# Altium footprint library TI Amplifiers and Linear Operational Amplifier High Speed.PcbLib: 83 footprints (part 4 of 6)
Each footprint in its own frame and in the unit in brackets; x right, y up, seen from the top. Pads: shape width x height; smd on the part's side, far side on the other; paste and mask are expansions set on the pad; w line width, h text height; cw(c..) or ccw(c..) is an arc to the next point about the centre after c.
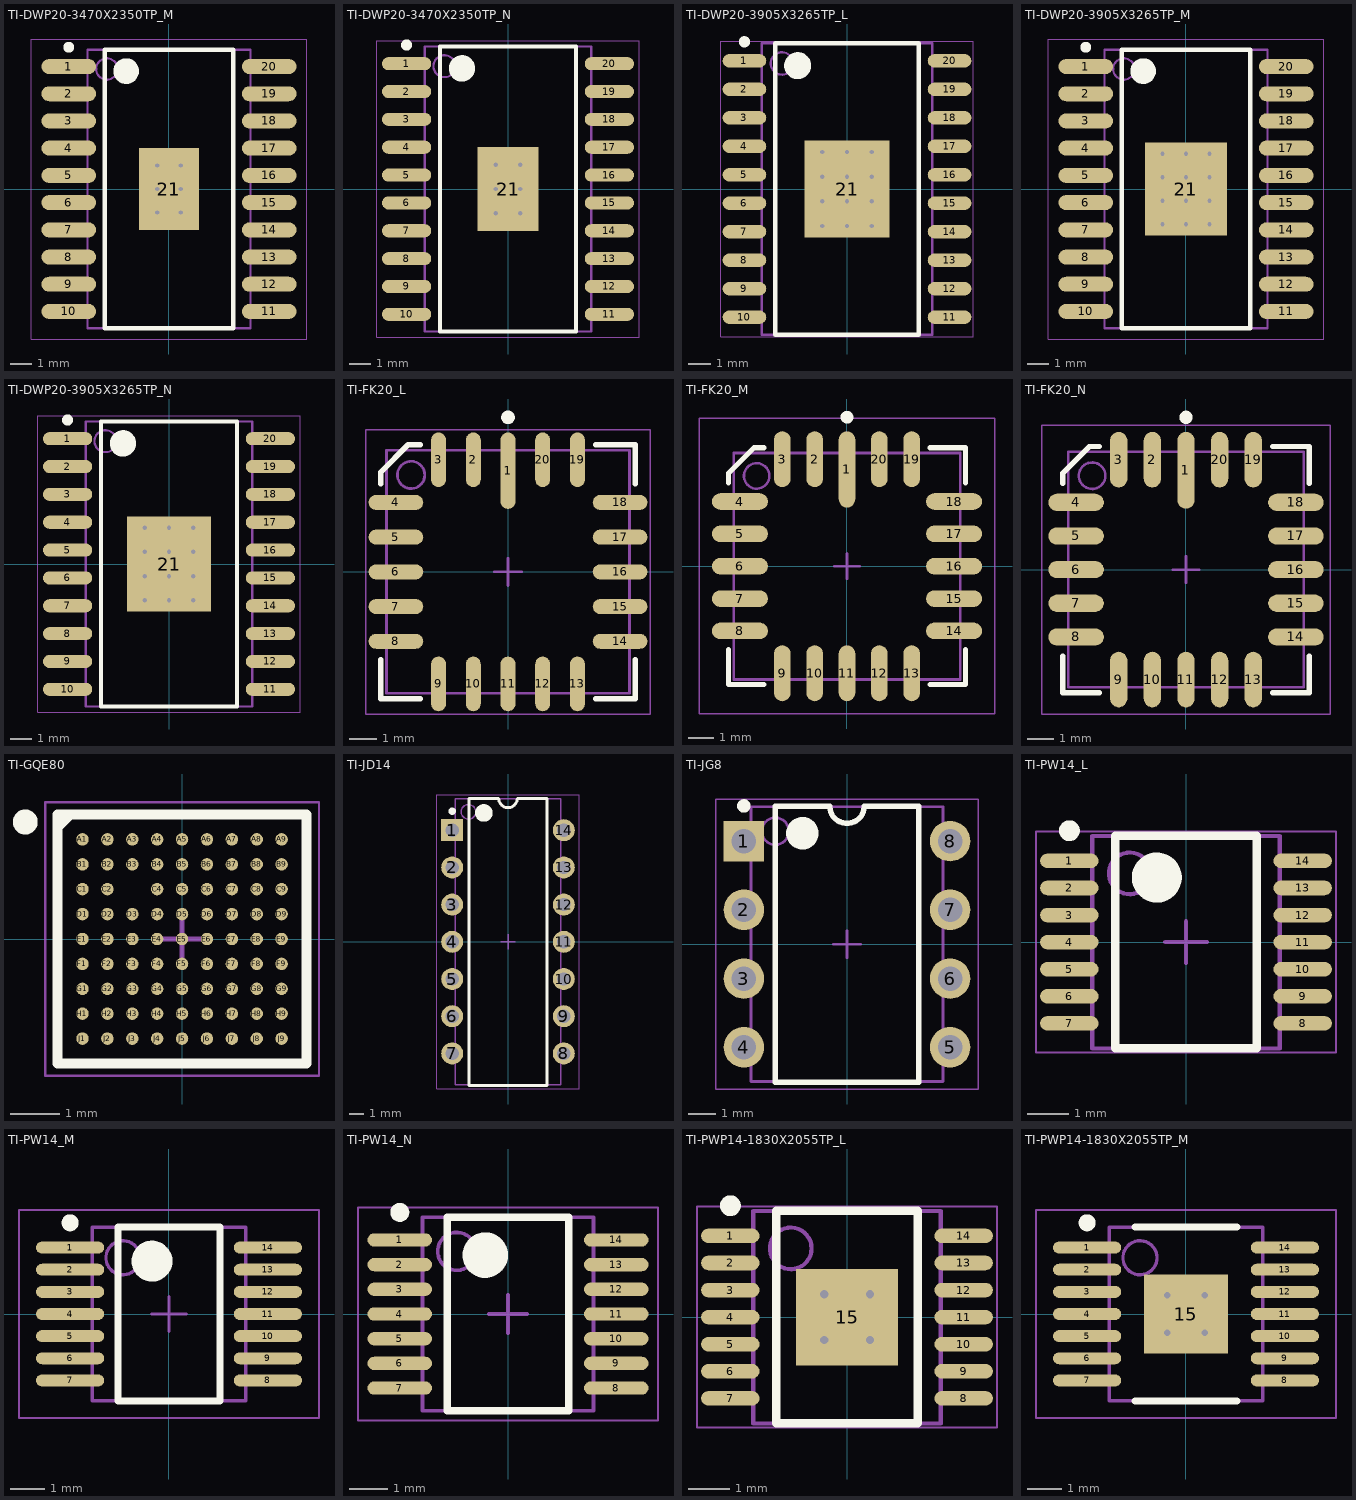
[diagram p3: the footprints below, top view; thin cyan lines are the x and y axes]

## TI-DWP20-3470X2350TP_M [mm] "SOP, 20-Leads, Body 12.825x7.52mm, Pitch 1.27mm, Thermal Pad 3.47x2.35mm, IPC Low Density"
height 2.65
pads (21):
  oval 2.55x0.7 smd: 1(-4.675,5.715) 2(-4.675,4.445) 3(-4.675,3.175) 4(-4.675,1.905) 5(-4.675,0.635) 6(-4.675,-0.635) 7(-4.675,-1.905) 8(-4.675,-3.175) 9(-4.675,-4.445) 10(-4.675,-5.715) 11(4.675,-5.715) 12(4.675,-4.445) 13(4.675,-3.175) 14(4.675,-1.905) 15(4.675,-0.635) 16(4.675,0.635) 17(4.675,1.905) 18(4.675,3.175) 19(4.675,4.445) 20(4.675,5.715)
  rect 2.79x3.81 smd: 21(0,0)
via -0.55,1.1 diameter 0.5 hole 0.2
via 0.55,1.1 diameter 0.5 hole 0.2
via -0.55,0 diameter 0.5 hole 0.2
via 0.55,0 diameter 0.5 hole 0.2
via -0.55,-1.1 diameter 0.5 hole 0.2
via 0.55,-1.1 diameter 0.5 hole 0.2
Top Overlay:
  circle w0.25: c-4.675,6.615 r0.125
  circle w0.6: c-2,5.5 r0.3
  lines w0.2: -3,-6.5 -3,6.5 3,6.5 3,-6.5 -3,-6.5
Mechanical 13:
  circle w0.1: c-2.9,5.6 r0.5
  lines w0.1: -3.8,-6.5 -3.8,6.5 3.8,6.5 3.8,-6.5 -3.8,-6.5
Mechanical 15:
  lines w0.05: -6.425,-7 -6.425,7 6.425,7 6.425,-7 -6.425,-7
  lines w0.1: -0.5,0 0.5,0 ; 0,-0.5 0,0.5
3D body: height 2.65, standoff 0.05, extent -3.8,-6.5 3.8,6.5

## TI-DWP20-3470X2350TP_N [mm] "SOP, 20-Leads, Body 12.825x7.52mm, Pitch 1.27mm, Thermal Pad 3.47x2.35mm, IPC Medium Density"
height 2.65
pads (21):
  oval 2.25x0.6 smd: 1(-4.625,5.715) 2(-4.625,4.445) 3(-4.625,3.175) 4(-4.625,1.905) 5(-4.625,0.635) 6(-4.625,-0.635) 7(-4.625,-1.905) 8(-4.625,-3.175) 9(-4.625,-4.445) 10(-4.625,-5.715) 11(4.625,-5.715) 12(4.625,-4.445) 13(4.625,-3.175) 14(4.625,-1.905) 15(4.625,-0.635) 16(4.625,0.635) 17(4.625,1.905) 18(4.625,3.175) 19(4.625,4.445) 20(4.625,5.715)
  rect 2.79x3.81 smd: 21(0,0)
via -0.55,1.1 diameter 0.5 hole 0.2
via 0.55,1.1 diameter 0.5 hole 0.2
via -0.55,0 diameter 0.5 hole 0.2
via 0.55,0 diameter 0.5 hole 0.2
via -0.55,-1.1 diameter 0.5 hole 0.2
via 0.55,-1.1 diameter 0.5 hole 0.2
Top Overlay:
  circle w0.25: c-4.625,6.565 r0.125
  circle w0.6: c-2.1,5.5 r0.3
  lines w0.2: -3.1,-6.5 -3.1,6.5 3.1,6.5 3.1,-6.5 -3.1,-6.5
Mechanical 13:
  circle w0.1: c-2.9,5.6 r0.5
  lines w0.1: -3.8,-6.5 -3.8,6.5 3.8,6.5 3.8,-6.5 -3.8,-6.5
Mechanical 15:
  lines w0.05: -5.975,-6.75 -5.975,6.75 5.975,6.75 5.975,-6.75 -5.975,-6.75
  lines w0.1: -0.5,0 0.5,0 ; 0,-0.5 0,0.5
3D body: height 2.65, standoff 0.05, extent -3.8,-6.5 3.8,6.5

## TI-DWP20-3905X3265TP_L [mm] "SOP, 20-Leads, Body 12.83x7.52mm, Pitch 1.27mm, Thermal Pad 3.27x3.91mm, IPC High Density"
height 2.65
pads (21):
  oval 1.95x0.6 smd: 1(-4.575,5.715) 2(-4.575,4.445) 3(-4.575,3.175) 4(-4.575,1.905) 5(-4.575,0.635) 6(-4.575,-0.635) 7(-4.575,-1.905) 8(-4.575,-3.175) 9(-4.575,-4.445) 10(-4.575,-5.715) 11(4.575,-5.715) 12(4.575,-4.445) 13(4.575,-3.175) 14(4.575,-1.905) 15(4.575,-0.635) 16(4.575,0.635) 17(4.575,1.905) 18(4.575,3.175) 19(4.575,4.445) 20(4.575,5.715)
  rect 3.81x4.32 smd: 21(0,0)
via -1.1,1.65 diameter 0.5 hole 0.2
via 0,1.65 diameter 0.5 hole 0.2
via 1.1,1.65 diameter 0.5 hole 0.2
via -1.1,0.55 diameter 0.5 hole 0.2
via 0,0.55 diameter 0.5 hole 0.2
via 1.1,0.55 diameter 0.5 hole 0.2
via -1.1,-0.55 diameter 0.5 hole 0.2
via 0,-0.55 diameter 0.5 hole 0.2
via 1.1,-0.55 diameter 0.5 hole 0.2
via -1.1,-1.65 diameter 0.5 hole 0.2
via 0,-1.65 diameter 0.5 hole 0.2
via 1.1,-1.65 diameter 0.5 hole 0.2
Top Overlay:
  circle w0.25: c-4.575,6.565 r0.125
  circle w0.6: c-2.2,5.5 r0.3
  lines w0.2: -3.2,-6.5 -3.2,6.5 3.2,6.5 3.2,-6.5 -3.2,-6.5
Mechanical 13:
  circle w0.1: c-2.9,5.6 r0.5
  lines w0.1: -3.8,-6.5 -3.8,6.5 3.8,6.5 3.8,-6.5 -3.8,-6.5
Mechanical 15:
  lines w0.05: -5.625,-6.6 -5.625,6.6 5.625,6.6 5.625,-6.6 -5.625,-6.6
  lines w0.1: -0.5,0 0.5,0 ; 0,-0.5 0,0.5
3D body: height 2.65, standoff 0.05, extent -3.8,-6.5 3.8,6.5

## TI-DWP20-3905X3265TP_M [mm] "SOP, 20-Leads, Body 12.83x7.52mm, Pitch 1.27mm, Thermal Pad 3.27x3.91mm, IPC Low Density"
height 2.65
pads (21):
  oval 2.55x0.7 smd: 1(-4.675,5.715) 2(-4.675,4.445) 3(-4.675,3.175) 4(-4.675,1.905) 5(-4.675,0.635) 6(-4.675,-0.635) 7(-4.675,-1.905) 8(-4.675,-3.175) 9(-4.675,-4.445) 10(-4.675,-5.715) 11(4.675,-5.715) 12(4.675,-4.445) 13(4.675,-3.175) 14(4.675,-1.905) 15(4.675,-0.635) 16(4.675,0.635) 17(4.675,1.905) 18(4.675,3.175) 19(4.675,4.445) 20(4.675,5.715)
  rect 3.81x4.32 smd: 21(0,0)
via -1.1,1.65 diameter 0.5 hole 0.2
via 0,1.65 diameter 0.5 hole 0.2
via 1.1,1.65 diameter 0.5 hole 0.2
via -1.1,0.55 diameter 0.5 hole 0.2
via 0,0.55 diameter 0.5 hole 0.2
via 1.1,0.55 diameter 0.5 hole 0.2
via -1.1,-0.55 diameter 0.5 hole 0.2
via 0,-0.55 diameter 0.5 hole 0.2
via 1.1,-0.55 diameter 0.5 hole 0.2
via -1.1,-1.65 diameter 0.5 hole 0.2
via 0,-1.65 diameter 0.5 hole 0.2
via 1.1,-1.65 diameter 0.5 hole 0.2
Top Overlay:
  circle w0.25: c-4.675,6.615 r0.125
  circle w0.6: c-2,5.5 r0.3
  lines w0.2: -3,-6.5 -3,6.5 3,6.5 3,-6.5 -3,-6.5
Mechanical 13:
  circle w0.1: c-2.9,5.6 r0.5
  lines w0.1: -3.8,-6.5 -3.8,6.5 3.8,6.5 3.8,-6.5 -3.8,-6.5
Mechanical 15:
  lines w0.05: -6.425,-7 -6.425,7 6.425,7 6.425,-7 -6.425,-7
  lines w0.1: -0.5,0 0.5,0 ; 0,-0.5 0,0.5
3D body: height 2.65, standoff 0.05, extent -3.8,-6.5 3.8,6.5

## TI-DWP20-3905X3265TP_N [mm] "SOP, 20-Leads, Body 12.83x7.52mm, Pitch 1.27mm, Thermal Pad 3.27x3.91mm, IPC Medium Density"
height 2.65
pads (21):
  oval 2.25x0.6 smd: 1(-4.625,5.715) 2(-4.625,4.445) 3(-4.625,3.175) 4(-4.625,1.905) 5(-4.625,0.635) 6(-4.625,-0.635) 7(-4.625,-1.905) 8(-4.625,-3.175) 9(-4.625,-4.445) 10(-4.625,-5.715) 11(4.625,-5.715) 12(4.625,-4.445) 13(4.625,-3.175) 14(4.625,-1.905) 15(4.625,-0.635) 16(4.625,0.635) 17(4.625,1.905) 18(4.625,3.175) 19(4.625,4.445) 20(4.625,5.715)
  rect 3.81x4.32 smd: 21(0,0)
via -1.1,1.65 diameter 0.5 hole 0.2
via 0,1.65 diameter 0.5 hole 0.2
via 1.1,1.65 diameter 0.5 hole 0.2
via -1.1,0.55 diameter 0.5 hole 0.2
via 0,0.55 diameter 0.5 hole 0.2
via 1.1,0.55 diameter 0.5 hole 0.2
via -1.1,-0.55 diameter 0.5 hole 0.2
via 0,-0.55 diameter 0.5 hole 0.2
via 1.1,-0.55 diameter 0.5 hole 0.2
via -1.1,-1.65 diameter 0.5 hole 0.2
via 0,-1.65 diameter 0.5 hole 0.2
via 1.1,-1.65 diameter 0.5 hole 0.2
Top Overlay:
  circle w0.25: c-4.625,6.565 r0.125
  circle w0.6: c-2.1,5.5 r0.3
  lines w0.2: -3.1,-6.5 -3.1,6.5 3.1,6.5 3.1,-6.5 -3.1,-6.5
Mechanical 13:
  circle w0.1: c-2.9,5.6 r0.5
  lines w0.1: -3.8,-6.5 -3.8,6.5 3.8,6.5 3.8,-6.5 -3.8,-6.5
Mechanical 15:
  lines w0.05: -5.975,-6.75 -5.975,6.75 5.975,6.75 5.975,-6.75 -5.975,-6.75
  lines w0.1: -0.5,0 0.5,0 ; 0,-0.5 0,0.5
3D body: height 2.65, standoff 0.05, extent -3.8,-6.5 3.8,6.5

## TI-FK20_L [mm] "Leadless Chip Carrier, 20-Leads, Body 8.9x8.9mm, Pitch 1.27mm, IPC High Density"
height 2.03
pads (20):
  oval 0.55x2.8 smd: 1(0,3.7)
  oval 0.55x2 smd: 2(-1.27,4.1) 3(-2.54,4.1) 9(-2.54,-4.1) 10(-1.27,-4.1) 11(0,-4.1) 12(1.27,-4.1) 13(2.54,-4.1) 19(2.54,4.1) 20(1.27,4.1)
  oval 2x0.55 smd: 4(-4.1,2.54) 5(-4.1,1.27) 6(-4.1,0) 7(-4.1,-1.27) 8(-4.1,-2.54) 14(4.1,-2.54) 15(4.1,-1.27) 16(4.1,0) 17(4.1,1.27) 18(4.1,2.54)
Top Overlay:
  circle w0.25: c0,5.65 r0.125
  lines w0.2: -4.65,-3.215 -4.65,-4.65 -3.215,-4.65 ; -4.65,3.215 -4.65,3.65 -3.65,4.65 -3.215,4.65 ; 3.215,-4.65 4.65,-4.65 4.65,-3.215 ; 3.215,4.65 4.65,4.65 4.65,3.215
Mechanical 13:
  circle w0.1: c-3.545,3.545 r0.5
  lines w0.1: -4.445,-4.445 -4.445,4.445 4.445,4.445 4.445,-4.445 -4.445,-4.445
Mechanical 15:
  lines w0.05: -5.2,-5.2 -5.2,5.2 5.2,5.2 5.2,-5.2 -5.2,-5.2
  lines w0.1: -0.5,0 0.5,0 ; 0,-0.5 0,0.5
3D body: height 2.03, standoff 0, extent -4.445,-4.445 4.445,4.445

## TI-FK20_M [mm] "Leadless Chip Carrier, 20-Leads, Body 8.9x8.9mm, Pitch 1.27mm, IPC Low Density"
height 2.03
pads (20):
  oval 0.65x3 smd: 1(0,3.8)
  oval 0.65x2.2 smd: 2(-1.27,4.2) 3(-2.54,4.2) 9(-2.54,-4.2) 10(-1.27,-4.2) 11(0,-4.2) 12(1.27,-4.2) 13(2.54,-4.2) 19(2.54,4.2) 20(1.27,4.2)
  oval 2.2x0.65 smd: 4(-4.2,2.54) 5(-4.2,1.27) 6(-4.2,0) 7(-4.2,-1.27) 8(-4.2,-2.54) 14(4.2,-2.54) 15(4.2,-1.27) 16(4.2,0) 17(4.2,1.27) 18(4.2,2.54)
Top Overlay:
  circle w0.25: c0,5.85 r0.125
  lines w0.2: -4.65,-3.265 -4.65,-4.65 -3.265,-4.65 ; -4.65,3.265 -4.65,3.65 -3.65,4.65 -3.265,4.65 ; 3.265,-4.65 4.65,-4.65 4.65,-3.265 ; 3.265,4.65 4.65,4.65 4.65,3.265
Mechanical 13:
  circle w0.1: c-3.545,3.545 r0.5
  lines w0.1: -4.445,-4.445 -4.445,4.445 4.445,4.445 4.445,-4.445 -4.445,-4.445
Mechanical 15:
  lines w0.05: -5.8,-5.8 -5.8,5.8 5.8,5.8 5.8,-5.8 -5.8,-5.8
  lines w0.1: -0.5,0 0.5,0 ; 0,-0.5 0,0.5
3D body: height 2.03, standoff 0, extent -4.445,-4.445 4.445,4.445

## TI-FK20_N [mm] "Leadless Chip Carrier, 20-Leads, Body 8.9x8.9mm, Pitch 1.27mm, IPC Medium Density"
height 2.03
pads (20):
  oval 0.65x2.9 smd: 1(0,3.75)
  oval 0.65x2.1 smd: 2(-1.27,4.15) 3(-2.54,4.15) 9(-2.54,-4.15) 10(-1.27,-4.15) 11(0,-4.15) 12(1.27,-4.15) 13(2.54,-4.15) 19(2.54,4.15) 20(1.27,4.15)
  oval 2.1x0.65 smd: 4(-4.15,2.54) 5(-4.15,1.27) 6(-4.15,0) 7(-4.15,-1.27) 8(-4.15,-2.54) 14(4.15,-2.54) 15(4.15,-1.27) 16(4.15,0) 17(4.15,1.27) 18(4.15,2.54)
Top Overlay:
  circle w0.25: c0,5.75 r0.125
  lines w0.2: -4.65,-3.265 -4.65,-4.65 -3.265,-4.65 ; -4.65,3.265 -4.65,3.65 -3.65,4.65 -3.265,4.65 ; 3.265,-4.65 4.65,-4.65 4.65,-3.265 ; 3.265,4.65 4.65,4.65 4.65,3.265
Mechanical 13:
  circle w0.1: c-3.545,3.545 r0.5
  lines w0.1: -4.445,-4.445 -4.445,4.445 4.445,4.445 4.445,-4.445 -4.445,-4.445
Mechanical 15:
  lines w0.05: -5.45,-5.45 -5.45,5.45 5.45,5.45 5.45,-5.45 -5.45,-5.45
  lines w0.1: -0.5,0 0.5,0 ; 0,-0.5 0,0.5
3D body: height 2.03, standoff 0, extent -4.445,-4.445 4.445,4.445

## TI-GQE80 [mm] "BGA, 80-Balls, Body 5x5mm, Pitch 0.5mm"
height 1
pads (80):
  round 0.25 smd: A1(-2,2) A2(-1.5,2) A3(-1,2) A4(-0.5,2) A5(0,2) A6(0.5,2) A7(1,2) A8(1.5,2) A9(2,2) B1(-2,1.5) B2(-1.5,1.5) B3(-1,1.5) B4(-0.5,1.5) B5(0,1.5) B6(0.5,1.5) B7(1,1.5) B8(1.5,1.5) B9(2,1.5) C1(-2,1) C2(-1.5,1) C4(-0.5,1) C5(0,1) C6(0.5,1) C7(1,1) C8(1.5,1) C9(2,1) D1(-2,0.5) D2(-1.5,0.5) D3(-1,0.5) D4(-0.5,0.5) D5(0,0.5) D6(0.5,0.5) D7(1,0.5) D8(1.5,0.5) D9(2,0.5) E1(-2,0) E2(-1.5,0) E3(-1,0) E4(-0.5,0) E5(0,0) E6(0.5,0) E7(1,0) E8(1.5,0) E9(2,0) F1(-2,-0.5) F2(-1.5,-0.5) F3(-1,-0.5) F4(-0.5,-0.5) F5(0,-0.5) F6(0.5,-0.5) F7(1,-0.5) F8(1.5,-0.5) F9(2,-0.5) G1(-2,-1) G2(-1.5,-1) G3(-1,-1) G4(-0.5,-1) G5(0,-1) G6(0.5,-1) G7(1,-1) G8(1.5,-1) G9(2,-1) H1(-2,-1.5) H2(-1.5,-1.5) H3(-1,-1.5) H4(-0.5,-1.5) H5(0,-1.5) H6(0.5,-1.5) H7(1,-1.5) H8(1.5,-1.5) H9(2,-1.5) J1(-2,-2) J2(-1.5,-2) J3(-1,-2) J4(-0.5,-2) J5(0,-2) J6(0.5,-2) J7(1,-2) J8(1.5,-2) J9(2,-2)
Top Overlay:
  circle w0.25: c-3.15,2.35 r0.125
  region: -2.242,2.5 -2.5,2.242 -2.5,2.5
  lines w0.2: -2.5,2.242 -2.242,2.5 ; -2.5,-2.5 2.5,-2.5 2.5,2.5 -2.5,2.5 -2.5,-2.5
Mechanical 13:
  lines w0.1: -2.5,-2.5 2.5,-2.5 2.5,2.5 -2.5,2.5 -2.5,-2.5
Mechanical 15:
  lines w0.05: -2.75,-2.75 2.75,-2.75 2.75,2.75 -2.75,2.75 -2.75,-2.75
  lines w0.1: -0.5,0 0.5,0 ; 0,-0.5 0,0.5
3D body: height 1, standoff 0.15, extent -2.5,-2.5 2.5,2.5

## TI-JD14 [mm] "DIP, 14-Leads, Body 18.545x7.49mm, Pitch 2.54mm, TI Recommended"
height 4.45
pads (14):
  rect 1.5x1.5 hole 0.9: 1(-3.81,7.62)
  round 1.5 hole 0.9: 2(-3.81,5.08) 3(-3.81,2.54) 4(-3.81,0) 5(-3.81,-2.54) 6(-3.81,-5.08) 7(-3.81,-7.62) 8(3.81,-7.62) 9(3.81,-5.08) 10(3.81,-2.54) 11(3.81,0) 12(3.81,2.54) 13(3.81,5.08) 14(3.81,7.62)
Top Overlay:
  circle w0.6: c-1.65,8.8 r0.3
  circle w0.25: c-3.81,8.92 r0.125
  lines w0.2: -2.65,-9.8 2.65,-9.8 2.65,9.8 0.635,9.8 cw(c0,9.8) -0.635,9.8 -2.65,9.8 -2.65,-9.8
Mechanical 13:
  circle w0.1: c-2.7,8.875 r0.5
  lines w0.1: -3.6,-9.775 3.6,-9.775 3.6,9.775 -3.6,9.775 -3.6,-9.775
Mechanical 15:
  lines w0.05: -4.85,-10.05 4.85,-10.05 4.85,10.05 -4.85,10.05 -4.85,-10.05
  lines w0.1: -0.5,0 0.5,0 ; 0,-0.5 0,0.5
3D body: height 4.45, standoff 0.64, extent -3.6,-9.775 3.6,9.775
3D body: height 0, standoff -1.6, extent 3.675,7.26 3.945,7.98
3D body: height 2.68, standoff 2.41, extent 3.6,7.12 3.945,8.12
3D body: height 2.41, standoff 0, extent 3.675,7.12 3.945,8.12
3D body: height 0, standoff -1.6, extent 3.675,4.72 3.945,5.44
3D body: height 2.68, standoff 2.41, extent 3.6,4.58 3.945,5.58
3D body: height 2.41, standoff 0, extent 3.675,4.58 3.945,5.58
3D body: height 0, standoff -1.6, extent 3.675,2.18 3.945,2.9
3D body: height 2.68, standoff 2.41, extent 3.6,2.04 3.945,3.04
3D body: height 2.41, standoff 0, extent 3.675,2.04 3.945,3.04
3D body: height 0, standoff -1.6, extent 3.675,-0.36 3.945,0.36
3D body: height 2.68, standoff 2.41, extent 3.6,-0.5 3.945,0.5
3D body: height 2.41, standoff 0, extent 3.675,-0.5 3.945,0.5
3D body: height 0, standoff -1.6, extent 3.675,-2.9 3.945,-2.18
3D body: height 2.68, standoff 2.41, extent 3.6,-3.04 3.945,-2.04
3D body: height 2.41, standoff 0, extent 3.675,-3.04 3.945,-2.04
3D body: height 0, standoff -1.6, extent 3.675,-5.44 3.945,-4.72
3D body: height 2.68, standoff 2.41, extent 3.6,-5.58 3.945,-4.58
3D body: height 2.41, standoff 0, extent 3.675,-5.58 3.945,-4.58
3D body: height 0, standoff -1.6, extent 3.675,-7.98 3.945,-7.26
3D body: height 2.68, standoff 2.41, extent 3.6,-8.12 3.945,-7.12
3D body: height 2.41, standoff 0, extent 3.675,-8.12 3.945,-7.12
3D body: height 0, standoff -1.6, extent -3.945,-7.98 -3.675,-7.26
3D body: height 2.68, standoff 2.41, extent -3.945,-8.12 -3.6,-7.12
3D body: height 2.41, standoff 0, extent -3.945,-8.12 -3.675,-7.12
3D body: height 0, standoff -1.6, extent -3.945,-5.44 -3.675,-4.72
3D body: height 2.68, standoff 2.41, extent -3.945,-5.58 -3.6,-4.58
3D body: height 2.41, standoff 0, extent -3.945,-5.58 -3.675,-4.58
3D body: height 0, standoff -1.6, extent -3.945,-2.9 -3.675,-2.18
3D body: height 2.68, standoff 2.41, extent -3.945,-3.04 -3.6,-2.04
3D body: height 2.41, standoff 0, extent -3.945,-3.04 -3.675,-2.04
3D body: height 0, standoff -1.6, extent -3.945,-0.36 -3.675,0.36
3D body: height 2.68, standoff 2.41, extent -3.945,-0.5 -3.6,0.5
3D body: height 2.41, standoff 0, extent -3.945,-0.5 -3.675,0.5
3D body: height 0, standoff -1.6, extent -3.945,2.18 -3.675,2.9
3D body: height 2.68, standoff 2.41, extent -3.945,2.04 -3.6,3.04
3D body: height 2.41, standoff 0, extent -3.945,2.04 -3.675,3.04
3D body: height 0, standoff -1.6, extent -3.945,4.72 -3.675,5.44
3D body: height 2.68, standoff 2.41, extent -3.945,4.58 -3.6,5.58
3D body: height 2.41, standoff 0, extent -3.945,4.58 -3.675,5.58
3D body: height 0, standoff -1.6, extent -3.945,7.26 -3.675,7.98
3D body: height 2.68, standoff 2.41, extent -3.945,7.12 -3.6,8.12
3D body: height 2.41, standoff 0, extent -3.945,7.12 -3.675,8.12

## TI-JG8 [mm] "DIP, 8-Leads, Body 10.15x7.1mm, Pitch 2.54mm"
height 5.08
pads (8):
  rect 1.5x1.5 hole 0.9: 1(-3.81,3.81)
  round 1.5 hole 0.9: 2(-3.81,1.27) 3(-3.81,-1.27) 4(-3.81,-3.81) 5(3.81,-3.81) 6(3.81,-1.27) 7(3.81,1.27) 8(3.81,3.81)
Top Overlay:
  circle w0.25: c-3.81,5.11 r0.125
  circle w0.6: c-1.65,4.1 r0.3
  lines w0.2: -2.65,-5.1 -2.65,5.1 -0.635,5.1 ccw(c0,5.1) 0.635,5.1 2.65,5.1 2.65,-5.1 -2.65,-5.1
Mechanical 13:
  circle w0.1: c-2.65,4.175 r0.5
  lines w0.1: -3.55,-5.075 -3.55,5.075 3.55,5.075 3.55,-5.075 -3.55,-5.075
Mechanical 15:
  lines w0.05: -4.85,-5.35 -4.85,5.35 4.85,5.35 4.85,-5.35 -4.85,-5.35
  lines w0.1: -0.5,0 0.5,0 ; 0,-0.5 0,0.5
3D body: height 2.66, standoff 0, extent -3.945,3.31 -3.675,4.31
3D body: height 2.93, standoff 2.66, extent -3.945,3.31 -3.55,4.31
3D body: height 0, standoff -1.6, extent -3.945,3.45 -3.675,4.17
3D body: height 2.66, standoff 0, extent -3.945,0.77 -3.675,1.77
3D body: height 2.93, standoff 2.66, extent -3.945,0.77 -3.55,1.77
3D body: height 0, standoff -1.6, extent -3.945,0.91 -3.675,1.63
3D body: height 2.66, standoff 0, extent -3.945,-1.77 -3.675,-0.77
3D body: height 2.93, standoff 2.66, extent -3.945,-1.77 -3.55,-0.77
3D body: height 0, standoff -1.6, extent -3.945,-1.63 -3.675,-0.91
3D body: height 2.66, standoff 0, extent -3.945,-4.31 -3.675,-3.31
3D body: height 2.93, standoff 2.66, extent -3.945,-4.31 -3.55,-3.31
3D body: height 0, standoff -1.6, extent -3.945,-4.17 -3.675,-3.45
3D body: height 2.66, standoff 0, extent 3.675,-4.31 3.945,-3.31
3D body: height 2.93, standoff 2.66, extent 3.55,-4.31 3.945,-3.31
3D body: height 0, standoff -1.6, extent 3.675,-4.17 3.945,-3.45
3D body: height 2.66, standoff 0, extent 3.675,-1.77 3.945,-0.77
3D body: height 2.93, standoff 2.66, extent 3.55,-1.77 3.945,-0.77
3D body: height 0, standoff -1.6, extent 3.675,-1.63 3.945,-0.91
3D body: height 2.66, standoff 0, extent 3.675,0.77 3.945,1.77
3D body: height 2.93, standoff 2.66, extent 3.55,0.77 3.945,1.77
3D body: height 0, standoff -1.6, extent 3.675,0.91 3.945,1.63
3D body: height 2.66, standoff 0, extent 3.675,3.31 3.945,4.31
3D body: height 2.93, standoff 2.66, extent 3.55,3.31 3.945,4.31
3D body: height 0, standoff -1.6, extent 3.675,3.45 3.945,4.17
3D body: height 5.08, standoff 0.51, extent -3.55,-5.075 3.55,5.075

## TI-PW14_L [mm] "SOP, 14-Leads, Body 5x4.4mm, Pitch 0.65mm, IPC High Density"
height 1.2
pads (14):
  oval 1.4x0.35 smd: 1(-2.8,1.95) 2(-2.8,1.3) 3(-2.8,0.65) 4(-2.8,0) 5(-2.8,-0.65) 6(-2.8,-1.3) 7(-2.8,-1.95) 8(2.8,-1.95) 9(2.8,-1.3) 10(2.8,-0.65) 11(2.8,0) 12(2.8,0.65) 13(2.8,1.3) 14(2.8,1.95)
Top Overlay:
  circle w0.6: c-0.7,1.55 r0.3
  circle w0.25: c-2.8,2.675 r0.125
  lines w0.2: -1.7,-2.55 1.7,-2.55 1.7,2.55 -1.7,2.55 -1.7,-2.55
Mechanical 13:
  circle w0.1: c-1.35,1.65 r0.5
  lines w0.1: -2.25,-2.55 2.25,-2.55 2.25,2.55 -2.25,2.55 -2.25,-2.55
Mechanical 15:
  lines w0.05: -3.6,-2.65 3.6,-2.65 3.6,2.65 -3.6,2.65 -3.6,-2.65
  lines w0.1: -0.5,0 0.5,0 ; 0,-0.5 0,0.5
3D body: height 1.2, standoff 0.05, extent -2.25,-2.55 2.25,2.55

## TI-PW14_M [mm] "SOP, 14-Leads, Body 5x4.4mm, Pitch 0.65mm, IPC Low Density"
height 1.2
pads (14):
  oval 2x0.35 smd: 1(-2.9,1.95) 2(-2.9,1.3) 3(-2.9,0.65) 4(-2.9,0) 5(-2.9,-0.65) 6(-2.9,-1.3) 7(-2.9,-1.95) 8(2.9,-1.95) 9(2.9,-1.3) 10(2.9,-0.65) 11(2.9,0) 12(2.9,0.65) 13(2.9,1.3) 14(2.9,1.95)
Top Overlay:
  circle w0.6: c-0.5,1.55 r0.3
  circle w0.25: c-2.9,2.675 r0.125
  lines w0.2: -1.5,-2.55 1.5,-2.55 1.5,2.55 -1.5,2.55 -1.5,-2.55
Mechanical 13:
  circle w0.1: c-1.35,1.65 r0.5
  lines w0.1: -2.25,-2.55 2.25,-2.55 2.25,2.55 -2.25,2.55 -2.25,-2.55
Mechanical 15:
  lines w0.05: -4.4,-3.05 4.4,-3.05 4.4,3.05 -4.4,3.05 -4.4,-3.05
  lines w0.1: -0.5,0 0.5,0 ; 0,-0.5 0,0.5
3D body: height 1.2, standoff 0.05, extent -2.25,-2.55 2.25,2.55

## TI-PW14_N [mm] "SOP, 14-Leads, Body 5x4.4mm, Pitch 0.65mm, IPC Medium Density"
height 1.2
pads (14):
  oval 1.7x0.35 smd: 1(-2.85,1.95) 2(-2.85,1.3) 3(-2.85,0.65) 4(-2.85,0) 5(-2.85,-0.65) 6(-2.85,-1.3) 7(-2.85,-1.95) 8(2.85,-1.95) 9(2.85,-1.3) 10(2.85,-0.65) 11(2.85,0) 12(2.85,0.65) 13(2.85,1.3) 14(2.85,1.95)
Top Overlay:
  circle w0.25: c-2.85,2.675 r0.125
  circle w0.6: c-0.6,1.55 r0.3
  lines w0.2: -1.6,-2.55 -1.6,2.55 1.6,2.55 1.6,-2.55 -1.6,-2.55
Mechanical 13:
  circle w0.1: c-1.35,1.65 r0.5
  lines w0.1: -2.25,-2.55 -2.25,2.55 2.25,2.55 2.25,-2.55 -2.25,-2.55
Mechanical 15:
  lines w0.05: -3.95,-2.8 -3.95,2.8 3.95,2.8 3.95,-2.8 -3.95,-2.8
  lines w0.1: -0.5,0 0.5,0 ; 0,-0.5 0,0.5
3D body: height 1.2, standoff 0.05, extent -2.25,-2.55 2.25,2.55

## TI-PWP14-1830X2055TP_L [mm] "SOP, 14-Leads, Body 5x4.4mm, Pitch 0.65mm, Thermal Pad 1.830x2.055mm, IPC High Density"
height 1.2
pads (15):
  oval 1.4x0.35 smd: 1(-2.8,1.95) 2(-2.8,1.3) 3(-2.8,0.65) 4(-2.8,0) 5(-2.8,-0.65) 6(-2.8,-1.3) 7(-2.8,-1.95) 8(2.8,-1.95) 9(2.8,-1.3) 10(2.8,-0.65) 11(2.8,0) 12(2.8,0.65) 13(2.8,1.3) 14(2.8,1.95)
  rect 2.46x2.31 smd: 15(0,0)
via -0.55,0.55 diameter 0.5 hole 0.2
via 0.55,0.55 diameter 0.5 hole 0.2
via -0.55,-0.55 diameter 0.5 hole 0.2
via 0.55,-0.55 diameter 0.5 hole 0.2
Top Overlay:
  circle w0.25: c-2.8,2.675 r0.125
  lines w0.2: -1.7,-2.55 -1.7,2.55 1.7,2.55 1.7,-2.55 -1.7,-2.55
Mechanical 13:
  circle w0.1: c-1.35,1.65 r0.5
  lines w0.1: -2.25,-2.55 -2.25,2.55 2.25,2.55 2.25,-2.55 -2.25,-2.55
Mechanical 15:
  lines w0.05: -3.6,-2.65 -3.6,2.65 3.6,2.65 3.6,-2.65 -3.6,-2.65
  lines w0.1: -0.5,0 0.5,0 ; 0,-0.5 0,0.5
3D body: height 1.2, standoff 0.05, extent -2.25,-2.55 2.25,2.55

## TI-PWP14-1830X2055TP_M [mm] "SOP, 14-Leads, Body 5x4.4mm, Pitch 0.65mm, Thermal Pad 1.830x2.055mm, IPC Low Density"
height 1.2
pads (15):
  oval 2x0.35 smd: 1(-2.9,1.95) 2(-2.9,1.3) 3(-2.9,0.65) 4(-2.9,0) 5(-2.9,-0.65) 6(-2.9,-1.3) 7(-2.9,-1.95) 8(2.9,-1.95) 9(2.9,-1.3) 10(2.9,-0.65) 11(2.9,0) 12(2.9,0.65) 13(2.9,1.3) 14(2.9,1.95)
  rect 2.46x2.31 smd: 15(0,0)
via 0.55,-0.55 diameter 0.5 hole 0.2
via -0.55,-0.55 diameter 0.5 hole 0.2
via 0.55,0.55 diameter 0.5 hole 0.2
via -0.55,0.55 diameter 0.5 hole 0.2
Top Overlay:
  circle w0.25: c-2.9,2.675 r0.125
  lines w0.2: -1.5,-2.55 1.5,-2.55 ; -1.5,2.55 1.5,2.55
Mechanical 13:
  circle w0.1: c-1.35,1.65 r0.5
  lines w0.1: -2.25,-2.55 2.25,-2.55 2.25,2.55 -2.25,2.55 -2.25,-2.55
Mechanical 15:
  lines w0.05: -4.4,-3.05 4.4,-3.05 4.4,3.05 -4.4,3.05 -4.4,-3.05
  lines w0.1: -0.5,0 0.5,0 ; 0,-0.5 0,0.5
3D body: height 1.2, standoff 0.05, extent -2.25,-2.55 2.25,2.55